# Altium footprint library board.PcbLib: 10 footprints
Each footprint in its own frame and in the unit in brackets; x right, y up, seen from the top. Pads: shape width x height; smd on the part's side, far side on the other; paste and mask are expansions set on the pad; w line width, h text height; cw(c..) or ccw(c..) is an arc to the next point about the centre after c.
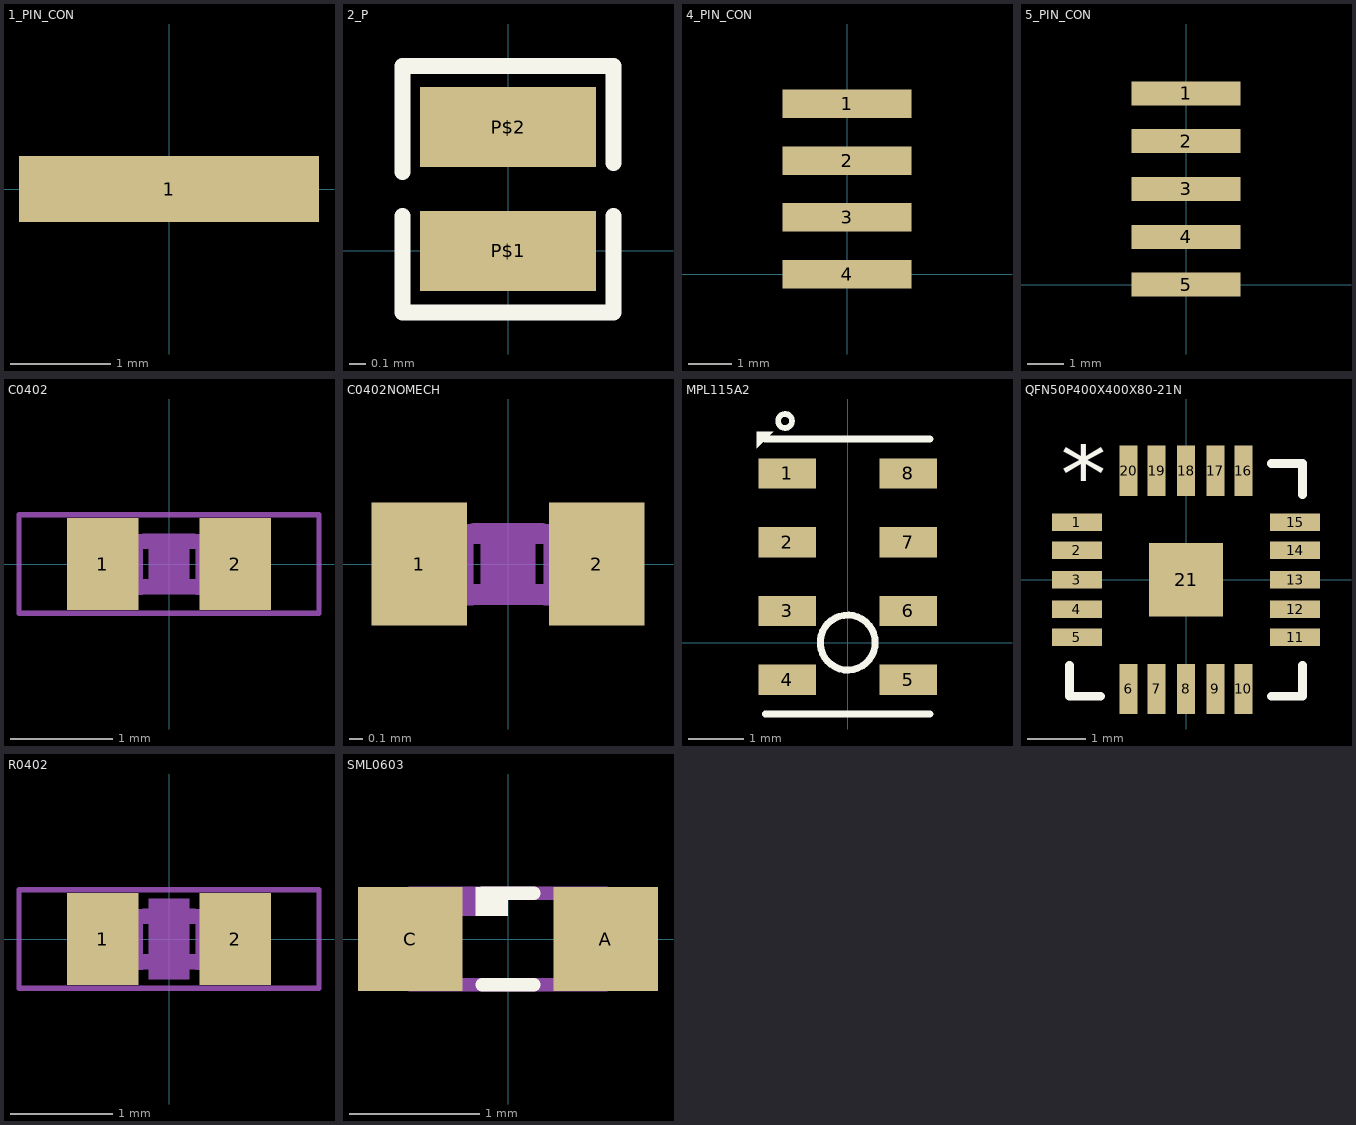
[diagram p0: the footprints below, top view; thin cyan lines are the x and y axes]

## 1_PIN_CON [mm] "1_PIN_CON"
pads (1):
  rect 3x0.66 smd: 1(0,0)

## 2_P [mil] "2_P"
pads (2):
  rect 43.31x19.69 smd: P$1(0,0) P$2(0,30.51)
Top Overlay:
  lines w3.94: -25.98,8.66 -25.98,-15.16 25.98,-15.16 25.98,8.66 ; -25.98,19.49 -25.98,45.47 25.98,45.47 25.98,21.65

## 4_PIN_CON [mm] "4_PIN_CON"
pads (4):
  rect 3x0.66 smd: 1(0,3.96) 2(0,2.64) 3(0,1.32) 4(0,0)

## 5_PIN_CON [mm] "5_PIN_CON"
pads (5):
  rect 3x0.66 smd: 1(0,5.28) 2(0,3.96) 3(0,2.64) 4(0,1.32) 5(0,0)

## C0402 [mm] "C0402"
pads (2):
  rect 0.7x0.9 smd: 1(-0.65,0) 2(0.65,0)
Mechanical 6:
  rectangle: -0.2,-0.3 0.2,0.3
Mechanical 16:
  rectangle: 0.259,-0.305 0.559,0.295
  rectangle: -0.554,-0.305 -0.254,0.295
  lines w0.051: -1.473,-0.483 -1.473,0.483 1.473,0.483 1.473,-0.483 -1.473,-0.483
  lines w0.152: -0.245,-0.224 0.245,-0.224 ; -0.245,0.224 0.245,0.224

## C0402NOMECH [mm] "C0402"
pads (2):
  rect 0.7x0.9 smd: 1(-0.65,0) 2(0.65,0)
Mechanical 6:
  rectangle: -0.2,-0.3 0.2,0.3
Mechanical 16:
  rectangle: 0.259,-0.305 0.559,0.295
  rectangle: -0.554,-0.305 -0.254,0.295
  lines w0.152: -0.245,-0.224 0.245,-0.224 ; -0.245,0.224 0.245,0.224

## MPL115A2 [mm] "MPL115A2"
pads (8):
  rect 1.05x0.55 smd: 1(-1.1,3.075) 2(-1.1,1.825) 3(-1.1,0.575) 4(-1.1,-0.675) 5(1.1,-0.675) 6(1.1,0.575) 7(1.1,1.825) 8(1.1,3.075)
Top Overlay:
  circle w0.127: c0,0 r0.5
  circle w0.102: c-1.14,4.03 r0.127
  region: -1.351,3.833 -1.651,3.533 -1.651,3.833
  lines w0.127: -1.5,-1.3 1.5,-1.3 ; -1.5,3.7 1.5,3.7

## QFN50P400X400X80-21N [mil] "QFN50P400X400X80-21N"
pads (21):
  rect 34x12 smd: 1(-74,39) 2(-74,20) 3(-74,0) 4(-74,-20) 5(-74,-39) 11(74,-39) 12(74,-20) 13(74,0) 14(74,20) 15(74,39)
  rect 12x34 smd: 6(-39,-74) 7(-20,-74) 8(0,-74) 9(20,-74) 10(39,-74) 16(39,74) 17(20,74) 18(0,74) 19(-20,74) 20(-39,74)
  rect 50x50 smd: 21(0,0)
Top Overlay:
  lines w6: -79,-58 -79,-79 -58,-79 ; 58,-79 79,-79 79,-58 ; 58,79 79,79 79,58
  text "*" at -85,35 h77.5
Mechanical 30:
  text "*" at -138,39 h77.5

## R0402 [mm] "R0402"
pads (2):
  rect 0.7x0.9 smd: 1(-0.65,0) 2(0.65,0)
Mechanical 6:
  rectangle: -0.2,-0.4 0.2,0.4
Mechanical 16:
  rectangle: -0.554,-0.305 -0.254,0.295
  rectangle: 0.259,-0.305 0.559,0.295
  lines w0.051: -1.473,-0.483 1.473,-0.483 1.473,0.483 -1.473,0.483 -1.473,-0.483
  lines w0.152: -0.245,-0.224 0.245,-0.224 ; -0.245,0.224 0.245,0.224

## SML0603 [mil] "SML0603"
pads (2):
  rect 31.5x31.5 smd: A(29.53,0) C(-29.53,0)
Top Overlay:
  rectangle: -9.84,6.89 0,15.75
  lines w4: -7.87,-13.78 7.87,-13.78 ; -7.87,13.78 7.87,13.78
Mechanical 16:
  rectangle: -15.75,6.89 0,15.75
  lines w4: -17.72,-11.81 -17.72,11.81 ; 17.72,-11.81 17.72,11.81 ; -29.53,-13.78 -29.53,13.78 29.53,13.78 29.53,-13.78 -29.53,-13.78